# Altium schematic symbol library Connectivity_Plugs.SchLib: 38 symbols
Pins are listed as number, name and electrical type; pins without a type are passive.

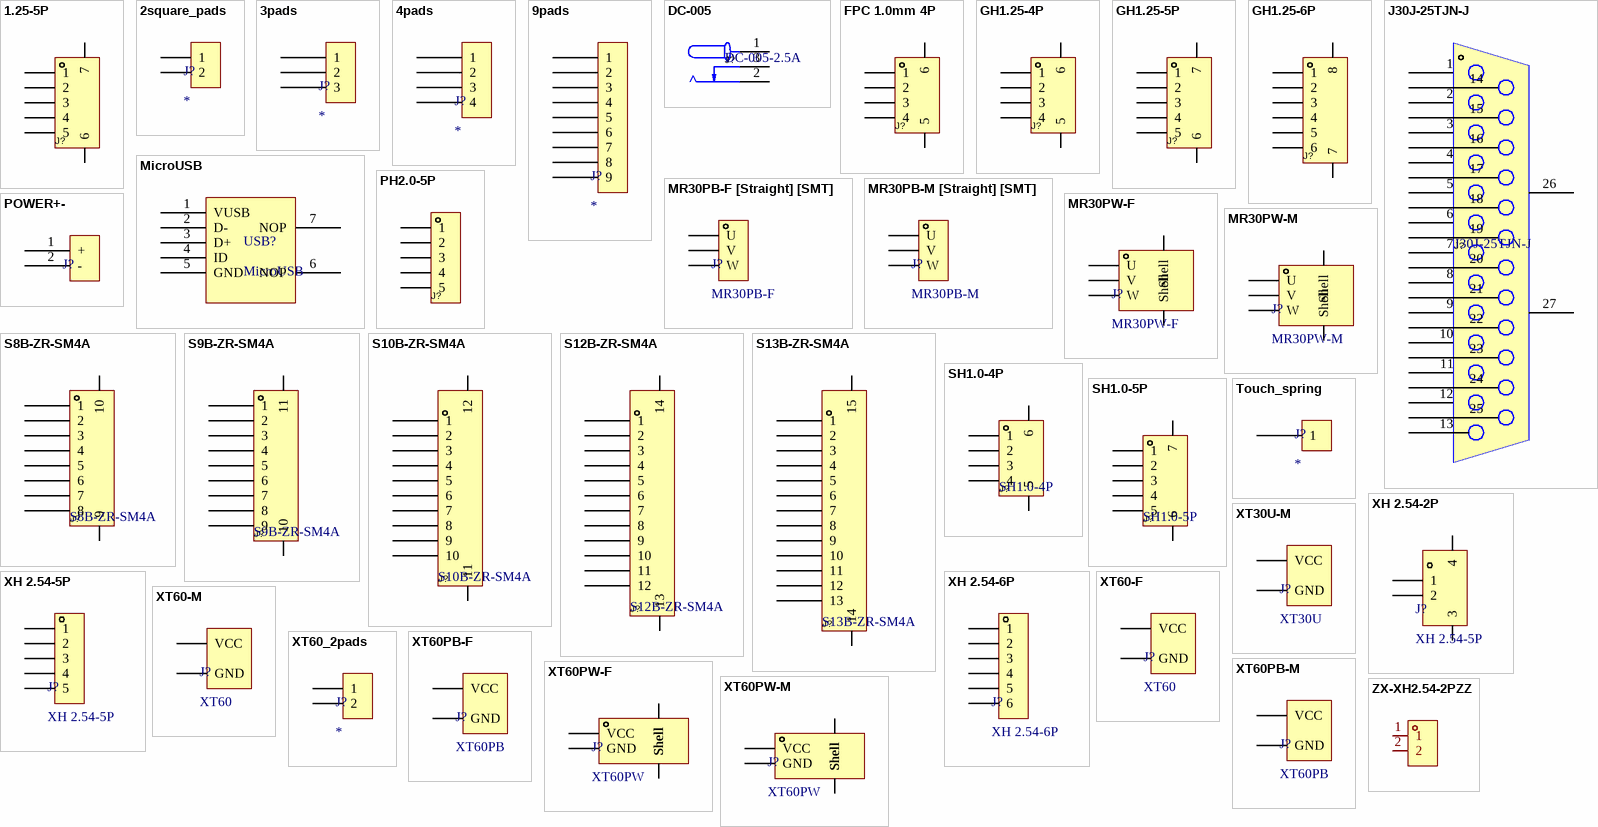
[diagram p0: symbols 1.25-5P to ZX-XH2.54-2PZZ]

## 1.25-5P
designator J?
CONN-SMD_5P-P1.25_532610571-2; Manufacturer: BOOMELE(博穆精密); Name: GH1.25-5PLTPZ; Add into BOM: yes; Symbol: GH1.25-5PLTPZ; Device: GH1.25-5PLTPZ; LCSC Part Name: GH1.25-5P立贴编带加盖; Supplier Part: C2829263; Manufacturer Part: GH1.25-5PLTPZ; Supplier Footprint: -; JLCPCB Part Class: Extended Part; Datasheet: https://atta.szlcsc.com/upload/public/pdf/source/20211125/08A09A4909F58AF780B71FE423A00F7E.pdf; Supplier: LCSC; Convert to PCB: yes
footprint 1.25-5P-SMD (CONN-SMD_5P-P1.25_532610571-2)
3D model CONN-SMD_5P-P1.25_BOOMELE_A1254WF-05A
pins: 1, 2, 3, 4, 5, 6, 7

## 2square_pads
designator J?
footprint 2pads_square
pins: 1, 2

## 3pads
designator J?
footprint 3pads_square
pins: 1, 2, 3

## 4pads
designator J?
footprint 4pads
footprint 4pads_square
pins: 1, 2, 3, 4

## 9pads
designator J?
footprint 9pads_square
pins: 1, 2, 3, 4, 5, 6, 7, 8, 9

## DC-005
designator J?, comment DC-005-2.5A
Manufacturer: XKB Connectivity(中国星坤); Name: DC-005-2.5A-2.5; Add into BOM: yes; Connector Type: DC电源插座; Inside Contact Diameter: 2.5mm; Outside Contact Diameter: 6.2mm; Current Rating (Max): 2.5A; Voltage Rating (Max): 24V; Welding Temperature (Max): 260℃; Symbol: DC-005-2.5A-2.5; Device: DC-005-2.5A-2.5; LCSC Part Name: DC电源插座 内径:2.5mm 外径:6.2mm; Supplier Part: C319098; Manufacturer Part: DC-005-2.5A-2.5; Supplier Footprint: 插件; JLCPCB Part Class: Extended Part; Datasheet: https://atta.szlcsc.com/upload/public/pdf/source/20220901/6F9138B665EDB96A8FB5BCA403DC5722.pdf; Supplier: LCSC; Convert to PCB: yes; Contact Material: 黄铜; Operating Temperature Range: -20℃~+70℃
footprint CONN-TH_DC-005-2.5A-2.0
3D model DC-IN-TH_L14.2-W8.8-H10.8
pins: 1, 2, 3

## FPC 1.0mm 4P
designator J?
FPC 4P Pull type 1.0MM Under the next; Manufacturer: BOOMELE(博穆精密); Name: GH1.25-5PLTPZ; Add into BOM: yes; Symbol: GH1.25-5PLTPZ; Device: GH1.25-5PLTPZ; LCSC Part Name: GH1.25-5P立贴编带加盖; Supplier Part: C2829263; Manufacturer Part: GH1.25-5PLTPZ; Supplier Footprint: -; JLCPCB Part Class: Extended Part; Datasheet: https://atta.szlcsc.com/upload/public/pdf/source/20211125/08A09A4909F58AF780B71FE423A00F7E.pdf; Supplier: LCSC; Convert to PCB: yes
footprint FPC 1.0mm 4P (SMD,1mm P数:4 抽屉式 下接)
pins: 1, 2, 3, 4, 5, 6

## GH1.25-4P
designator J?
Manufacturer: BOOMELE(博穆精密); Name: GH1.25-5PLTPZ; Add into BOM: yes; Symbol: GH1.25-5PLTPZ; Device: GH1.25-5PLTPZ; LCSC Part Name: GH1.25-5P立贴编带加盖; Supplier Part: C2829263; Manufacturer Part: GH1.25-5PLTPZ; Supplier Footprint: -; JLCPCB Part Class: Extended Part; Datasheet: https://atta.szlcsc.com/upload/public/pdf/source/20211125/08A09A4909F58AF780B71FE423A00F7E.pdf; Supplier: LCSC; Convert to PCB: yes
footprint GH1.25-4P
pins: 1, 2, 3, 4, 5, 6

## GH1.25-5P
designator J?
Manufacturer: BOOMELE(博穆精密); Name: GH1.25-5PLTPZ; Add into BOM: yes; Symbol: GH1.25-5PLTPZ; Device: GH1.25-5PLTPZ; LCSC Part Name: GH1.25-5P立贴编带加盖; Supplier Part: C2829263; Manufacturer Part: GH1.25-5PLTPZ; Supplier Footprint: -; JLCPCB Part Class: Extended Part; Datasheet: https://atta.szlcsc.com/upload/public/pdf/source/20211125/08A09A4909F58AF780B71FE423A00F7E.pdf; Supplier: LCSC; Convert to PCB: yes
footprint GH1.25-5P
3D model CONN-SMD_5P-P1.25_BOOMELE_A1254WF-05A
pins: 1, 2, 3, 4, 5, 6, 7

## GH1.25-6P
designator J?
Manufacturer: BOOMELE(博穆精密); Name: GH1.25-5PLTPZ; Add into BOM: yes; Symbol: GH1.25-5PLTPZ; Device: GH1.25-5PLTPZ; LCSC Part Name: GH1.25-5P立贴编带加盖; Supplier Part: C2829263; Manufacturer Part: GH1.25-5PLTPZ; Supplier Footprint: -; JLCPCB Part Class: Extended Part; Datasheet: https://atta.szlcsc.com/upload/public/pdf/source/20211125/08A09A4909F58AF780B71FE423A00F7E.pdf; Supplier: LCSC; Convert to PCB: yes
footprint GH1.25-6P
pins: 1, 2, 3, 4, 5, 6, 7, 8

## J30J-25TJN-J
designator J?
Manufacturer: BOOMELE(博穆精密); Name: GH1.25-5PLTPZ; Add into BOM: yes; Symbol: GH1.25-5PLTPZ; Device: GH1.25-5PLTPZ; LCSC Part Name: GH1.25-5P立贴编带加盖; Supplier Part: C2829263; Manufacturer Part: GH1.25-5PLTPZ; Supplier Footprint: -; JLCPCB Part Class: Extended Part; Datasheet: https://atta.szlcsc.com/upload/public/pdf/source/20211125/08A09A4909F58AF780B71FE423A00F7E.pdf; Supplier: LCSC; Convert to PCB: yes
footprint J30J-25TJN-J
pins: 1, 2, 3, 4, 5, 6, 7, 8, 9, 10, 11, 12, 13, 14, 15, 16, 17, 18, 19, 20, 21, 22, 23, 24, 25, 26, 27

## MicroUSB
designator USB?
footprint microusb (Connector; USB1.1, Type B, SM; 4 Position; Right Angle)
pins: 1 VUSB, 2 D-, 3 D+, 4 ID, 5 GND, 6 NOP, 7 NOP

## MR30PB-F [Straight] [SMT]
designator J?, comment MR30PB-F
驱动器端
footprint MR30PB-F [Straight] [SMT] (驱动器端)
pins: 1 U, 2 V, 3 W

## MR30PB-M [Straight] [SMT]
designator J?, comment MR30PB-M
驱动器端
footprint MR30PB-M [Straight] [SMT] (驱动器端)
pins: 1 U, 2 V, 3 W

## MR30PW-F
designator J?
驱动器端
footprint MR30PW-F (驱动器端)
pins: 1 U, 2 V, 3 W, 4 Shell, 5 Shell

## MR30PW-M
designator J?
电机端
footprint MR30PW-M
pins: 1 U, 2 V, 3 W, 4 Shell, 5 Shell

## PH2.0-5P
designator J?
B5B-PH-K-S; Manufacturer: BOOMELE(博穆精密); Name: GH1.25-5PLTPZ; Add into BOM: yes; Symbol: GH1.25-5PLTPZ; Device: GH1.25-5PLTPZ; LCSC Part Name: GH1.25-5P立贴编带加盖; Supplier Part: C2829263; Manufacturer Part: GH1.25-5PLTPZ; Supplier Footprint: -; JLCPCB Part Class: Extended Part; Datasheet: https://atta.szlcsc.com/upload/public/pdf/source/20211125/08A09A4909F58AF780B71FE423A00F7E.pdf; Supplier: LCSC; Convert to PCB: yes
footprint CONN-TH_B5B-PH-K-S-LF-SN
pins: 1, 2, 3, 4, 5

## POWER+-
designator J?  (value not drawn)
footprint Power+-
pins: 1 +, 2 -

## S8B-ZR-SM4A
designator J?
S8B-ZR-SM4A-TF(LF)(SN); Manufacturer: BOOMELE(博穆精密); Name: GH1.25-5PLTPZ; Add into BOM: yes; Symbol: GH1.25-5PLTPZ; Device: GH1.25-5PLTPZ; LCSC Part Name: GH1.25-5P立贴编带加盖; Supplier Part: C2829263; Manufacturer Part: GH1.25-5PLTPZ; Supplier Footprint: -; JLCPCB Part Class: Extended Part; Datasheet: https://atta.szlcsc.com/upload/public/pdf/source/20211125/08A09A4909F58AF780B71FE423A00F7E.pdf; Supplier: LCSC; Convert to PCB: yes
footprint S8B-ZR-SM4A-TF-LF-SN (SMD)
pins: 1, 2, 3, 4, 5, 6, 7, 8, 9, 10

## S9B-ZR-SM4A
designator J?
S9B-ZR-SM4A-TF(LF)(SN); Manufacturer: BOOMELE(博穆精密); Name: GH1.25-5PLTPZ; Add into BOM: yes; Symbol: GH1.25-5PLTPZ; Device: GH1.25-5PLTPZ; LCSC Part Name: GH1.25-5P立贴编带加盖; Supplier Part: C2829263; Manufacturer Part: GH1.25-5PLTPZ; Supplier Footprint: -; JLCPCB Part Class: Extended Part; Datasheet: https://atta.szlcsc.com/upload/public/pdf/source/20211125/08A09A4909F58AF780B71FE423A00F7E.pdf; Supplier: LCSC; Convert to PCB: yes
footprint S9B-ZR-SM4A-TF-LF-SN (SMD)
pins: 1, 2, 3, 4, 5, 6, 7, 8, 9, 10, 11

## S10B-ZR-SM4A
designator J?
S10B-ZR-SM4A-TF(LF)(SN); Manufacturer: BOOMELE(博穆精密); Name: GH1.25-5PLTPZ; Add into BOM: yes; Symbol: GH1.25-5PLTPZ; Device: GH1.25-5PLTPZ; LCSC Part Name: GH1.25-5P立贴编带加盖; Supplier Part: C2829263; Manufacturer Part: GH1.25-5PLTPZ; Supplier Footprint: -; JLCPCB Part Class: Extended Part; Datasheet: https://atta.szlcsc.com/upload/public/pdf/source/20211125/08A09A4909F58AF780B71FE423A00F7E.pdf; Supplier: LCSC; Convert to PCB: yes
footprint S10B-ZR-SM4A-TF-LF-SN (SMD)
pins: 1, 2, 3, 4, 5, 6, 7, 8, 9, 10, 11, 12

## S12B-ZR-SM4A
designator J?
S12B-ZR-SM4A-TF(LF)(SN); Manufacturer: BOOMELE(博穆精密); Name: GH1.25-5PLTPZ; Add into BOM: yes; Symbol: GH1.25-5PLTPZ; Device: GH1.25-5PLTPZ; LCSC Part Name: GH1.25-5P立贴编带加盖; Supplier Part: C2829263; Manufacturer Part: GH1.25-5PLTPZ; Supplier Footprint: -; JLCPCB Part Class: Extended Part; Datasheet: https://atta.szlcsc.com/upload/public/pdf/source/20211125/08A09A4909F58AF780B71FE423A00F7E.pdf; Supplier: LCSC; Convert to PCB: yes
footprint S12B-ZR-SM4A-TF-LF-SN (SMD)
pins: 1, 2, 3, 4, 5, 6, 7, 8, 9, 10, 11, 12, 13, 14

## S13B-ZR-SM4A
designator J?
S13B-ZR-SM4A-TF-LF-SN; Manufacturer: BOOMELE(博穆精密); Name: GH1.25-5PLTPZ; Add into BOM: yes; Symbol: GH1.25-5PLTPZ; Device: GH1.25-5PLTPZ; LCSC Part Name: GH1.25-5P立贴编带加盖; Supplier Part: C2829263; Manufacturer Part: GH1.25-5PLTPZ; Supplier Footprint: -; JLCPCB Part Class: Extended Part; Datasheet: https://atta.szlcsc.com/upload/public/pdf/source/20211125/08A09A4909F58AF780B71FE423A00F7E.pdf; Supplier: LCSC; Convert to PCB: yes
footprint S13B-ZR-SM4A-TF-LF-SN (SMD)
pins: 1, 2, 3, 4, 5, 6, 7, 8, 9, 10, 11, 12, 13, 14, 15

## SH1.0-4P
designator J?
Manufacturer: BOOMELE(博穆精密); Name: GH1.25-5PLTPZ; Add into BOM: yes; Symbol: GH1.25-5PLTPZ; Device: GH1.25-5PLTPZ; LCSC Part Name: GH1.25-5P立贴编带加盖; Supplier Part: C2829263; Manufacturer Part: GH1.25-5PLTPZ; Supplier Footprint: -; JLCPCB Part Class: Extended Part; Datasheet: https://atta.szlcsc.com/upload/public/pdf/source/20211125/08A09A4909F58AF780B71FE423A00F7E.pdf; Supplier: LCSC; Convert to PCB: yes
footprint CONN-SMD_4P-P1.00_BX-SH1.0-4PWT
pins: 1, 2, 3, 4, 5, 6

## SH1.0-5P
designator J?
CONN-SMD_5P-P1.25_532610571-2; Manufacturer: BOOMELE(博穆精密); Name: GH1.25-5PLTPZ; Add into BOM: yes; Symbol: GH1.25-5PLTPZ; Device: GH1.25-5PLTPZ; LCSC Part Name: GH1.25-5P立贴编带加盖; Supplier Part: C2829263; Manufacturer Part: GH1.25-5PLTPZ; Supplier Footprint: -; JLCPCB Part Class: Extended Part; Datasheet: https://atta.szlcsc.com/upload/public/pdf/source/20211125/08A09A4909F58AF780B71FE423A00F7E.pdf; Supplier: LCSC; Convert to PCB: yes
footprint SM05B-SRSS-TB-LF-SN (https://www.jst-mfg.com/product/index.php?series=231)
3D model CONN-SMD_5P-P1.25_BOOMELE_A1254WF-05A
pins: 1, 2, 3, 4, 5, 6, 7

## Touch_spring
designator J?
footprint Touch_spring2
footprint Touch_spring1
pins: 1

## XH 2.54-2P
designator J?, comment XH 2.54-5P
footprint CONN-SMD_2P-P2.54_MEGASTAR_ZX-XH2.54-2PWT
pins: 1, 2, 3, 4

## XH 2.54-5P
designator J?
footprint XH 2.54-5P
pins: 1, 2, 3, 4, 5

## XH 2.54-6P
designator J?
footprint XH 2.54-6P
pins: 1, 2, 3, 4, 5, 6

## XT30U-M
designator J?, comment XT30U
TH_XT30U-M
footprint XT30U-M
pins: 1 VCC, 2 GND

## XT60-F
designator J?, comment XT60
footprint XT60-F
pins: 1 VCC, 2 GND

## XT60-M
designator J?, comment XT60
footprint XT60-M
pins: 1 VCC, 2 GND

## XT60_2pads
designator J?
footprint XT60_2pads
pins: 1, 2

## XT60PB-F
designator J?, comment XT60PB
footprint XT60PB-F
pins: 1 VCC, 2 GND

## XT60PB-M
designator J?, comment XT60PB
footprint XT60PB-M
pins: 1 VCC, 2 GND

## XT60PW-F
designator J?, comment XT60PW
footprint XT60PW-F
pins: 1 VCC, 2 GND, 3 Shell, 4 Shell

## XT60PW-M
designator J?, comment XT60PW
footprint XT60PW-M
pins: 1 VCC, 2 GND, 3 Shell, 4 Shell

## ZX-XH2.54-2PZZ
designator CN?  (value not drawn)
Manufacturer: Megastar(兆星); Add into BOM: yes; Pins Structure: 1x2P; Pitch: 2.54mm; Reference Series: XH; Number of PINs Per Row: 2; Current Rating (Max): 3A; Symbol: ZX-XH2.54-2PZZ; Device: ZX-XH2.54-2PZZ; LCSC Part Name: ZX-XH2.54-2PZZ; Supplier Part: C7429632; Manufacturer Part: ZX-XH2.54-2PZZ; Supplier Footprint: 插件,P=2.54mm; JLCPCB Part Class: Extended Part; Datasheet: https://atta.szlcsc.com/upload/public/pdf/source/20230619/19BA6947230AA44A04D3EDD65E618FD0.pdf; Supplier: LCSC; Convert to PCB: yes; Mounting Style: 直插; Number of Pins: 2P; Number of Rows: 1; Row Spacing: -; Contact Material: 黄铜; Contact Plating: 锡; Operating Temperature Range: -25℃~+85℃
footprint CONN-TH_2P-P2.50_HX25003-2A
pins: 1, 2